# Altium schematic symbol library Schlib.SchLib: 5 symbols
Pins are listed as number, name and electrical type; pins without a type are passive.

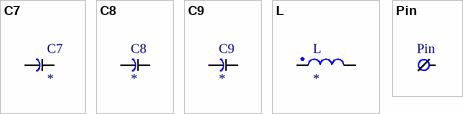
[diagram p0: symbols C7 to Pin]

## C7
designator C7
footprint C7(1206) (Chip Capacitor, 2-Leads, Body 3,20x1,60mm, IPC Medium Density)
pins: 1, 2

## C8
designator C8
footprint C8(1812) (Chip Capacitor, 2-Leads, Body 4,60x3,20mm, IPC Medium Density)
pins: 1, 2

## C9
designator C9
footprint C9(1812) (Chip Capacitor, 2-Leads, Body 4,50x3,20mm, IPC Medium Density)
pins: 1, 2

## L
designator L
footprint L3,L4
pins: 1, 2

## Pin
designator Pin  (value not drawn)
footprint Pin
pins: 1 4